# Altium schematic symbol library Schlib1.SchLib: 10 symbols
Pins are listed as number, name and electrical type; pins without a type are passive.

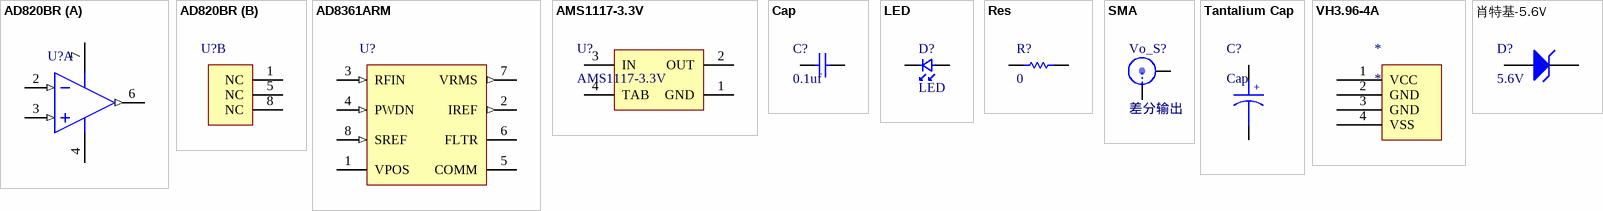
[diagram p0: symbols AD820BR to 肖特基-5.6V]

## AD820BR
designator U?
Single Channel Rail-to-Rail Operational Amplifier, 1.9 MHz BW, 3 V/us SR, Industrial, 8-pin SOIC (R-8), Tube; Generic Part Number: AD820; Manufacturer: Analog Devices; PartNumber: AD820BR; Amplifiers Per Package: 1; Input Bias Current: 2pA; Input Offset Voltage: 100uV; Iq/Amp: 900uA; Slew Rate: 3V/us; Small Signal Bandwidth: 1.9MHz; V Span Max: 36V; V Span Min: 5V; DatasheetVersion: Rev. H; PackageVersion: 060506-A; PackageReference: R-8; PackageDescription: 8-Pin Standard Small Outline Package, Body 3.9 x 4.9 mm, Pitch 1.27 mm; Supplier 1: Digi-Key; Supplier Part Number 1: AD820BR-ND; Mounting Technology: Surface Mount; Code_JEDEC: MS-012-AA; ComponentLink1Description: Manufacturer URL; ComponentLink1URL: http://www.analog.com/en/index.html; ComponentLink2Description: Datasheet; ComponentLink2URL: http://www.analog.com/static/imported-files/data_sheets/AD820.pdf; ComponentLink3Description: Package Specification; ComponentLink3URL: http://www.analog.com/static/imported-files/packages/PKG_PDF/SOIC_Narrow%20(R)/R_8.pdf
footprint ADI-R-8_N (SOIC, 8-Leads, Body 4.9x3.9mm, Pitch 1.27mm, IPC Medium Density)
footprint ADI-R-8_L (SOIC, 8-Leads, Body 4.9x3.9mm, Pitch 1.27mm, IPC High Density)
footprint ADI-R-8_M (SOIC, 8-Leads, Body 4.9x3.9mm, Pitch 1.27mm, IPC Low Density)
part A pins: 2 -IN (in), 3 +IN (in), 4 -VS (power), 6 VOUT (out), 7 +VS (power)
part B pins: 1 NC, 5 NC, 8 NC

## AD8361ARM
designator U?
LF to 2.5 GHz TruPwr?Detector, 5祍 Response Time, RM-8, 50 Tube; Product Description: Low Power RMS Detector; RF Frequency (MHz): 2.5GHz; Dynamic Range (dB): 30dB; Temp Stability (dB): 250mdB; Voltage Supply (V): 2.7 to 5.5; Supply Current: 1.1mA; Output Response: Linear in Voltage; DatasheetVersion: Rev. C; PackageVersion: Aug-2005; PackageReference: RM-8; PackageDescription: 8-Lead Mini Small Outline Package [MSOP]; Response Time (ns typ): 5祍; Code_JEDEC: MO-187-AA; ComponentLink1Description: Manufacturer URL; ComponentLink1URL: www.analog.com; ComponentLink2Description: Datasheet; ComponentLink2URL: http://www.analog.com/static/imported-files/data_sheets/AD8361.pdf; ComponentLink3Description: Package Specification; ComponentLink3URL: http://www.analog.com/static/imported-files/packages/PKG_PDF/MSOP%28RM%29/RM_8.pdf
footprint ADI-RM-8_N (TSOP, 8-Leads, Body 3x3mm, Pitch 0.65mm, IPC Medium Density)
footprint ADI-RM-8_L (TSOP, 8-Leads, Body 3x3mm, Pitch 0.65mm, IPC High Density)
footprint ADI-RM-8_M (TSOP, 8-Leads, Body 3x3mm, Pitch 0.65mm, IPC Low Density)
pins: 1 VPOS (power) "Supply Voltage Pin. Operational range 2.7 V to 5.5 V", 2 IREF (out) "Output Reference Control Pin. Internal reference mode enabled when pin is left open; otherwise, this pin should be tied to VPOS. Do not ground this pin", 3 RFIN (in) "Signal Input Pin. Must be driven from an ac-coupled source. The low frequency real input impedance is 225 Ohm", 4 PWDN (in) "Power-Down Pin. For the device to operate as a detector, it needs a logical low input (less than 100 mV). [see datasheet.]", 5 COMM (power) "Device Ground Pin", 6 FLTR "By placing a capacitor between this pin and VPOS, the corner frequency of the modulation filter is lowered. The on-chip filter is formed with 27 pF||2 kOhm for small input signals", 7 VRMS (out) "Output Pin. Near rail-to-rail voltage output with limited current drive capabilities. Expected load >10 kOhm to ground", 8 SREF (in) "Supply Reference Control Pin. To enable supply reference mode, this pin must be connected to VPOS; otherwise, it should be connected to COMM (ground)"

## AMS1117-3.3V
designator U?
footprint SOT-223
pins: 1 GND (power), 2 OUT (power), 3 IN (power), 4 TAB (power)

## Cap
designator C?, comment 0.1uf
footprint 0805
footprint 0603C
pins: 1, 2

## LED
designator D?
footprint 0805_s
pins: 1, 2

## Res
designator R?, comment 0
footprint 0805
footprint 0603R
pins: 1, 2

## SMA
designator Vo_S?, comment 差分输出
footprint SMA-LYING
footprint SMA-STAND
pins: 0, 1

## Tantalium Cap
designator C?, comment Cap
footprint 7343-31 TYPE D
footprint 3216C-TYPE_A
pins: 1, 2
text: +

## VH3.96-4A
designator *
footprint VH3.96-4P
footprint VH3.96-4P
pins: 1 VCC, 2 GND, 3 GND, 4 VSS

## 肖特基-5.6V
designator D?, comment 5.6V
footprint SMA/DO-214AC
pins: 1 A, 2 K